# Altium footprint library Ublox.PcbLib: 1 footprints
Each footprint in its own frame and in the unit in brackets; x right, y up, seen from the top. Pads: shape width x height; smd on the part's side, far side on the other; paste and mask are expansions set on the pad; w line width, h text height; cw(c..) or ccw(c..) is an arc to the next point about the centre after c.
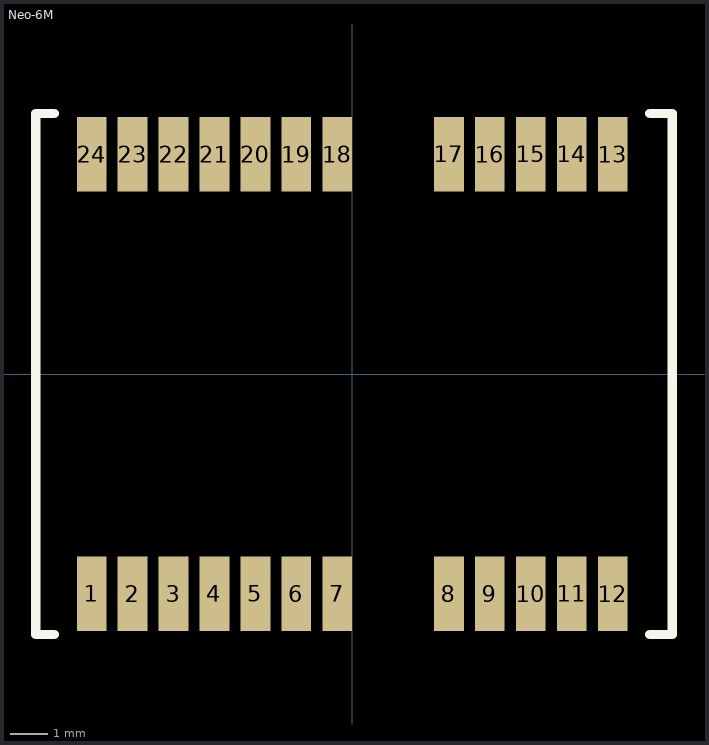
[diagram p0: the footprint, top view; thin cyan lines are the x and y axes]

## Neo-6M [mm]
pads (24):
  rect 0.8x2 smd: 1(-7,-5.9) 2(-5.9,-5.9) 3(-4.8,-5.9) 4(-3.7,-5.9) 5(-2.6,-5.9) 6(-1.5,-5.9) 7(-0.4,-5.9) 8(2.6,-5.9) 9(3.7,-5.9) 10(4.8,-5.9) 11(5.9,-5.9) 12(7,-5.9) 13(7,5.9) 14(5.9,5.9) 15(4.8,5.9) 16(3.7,5.9) 17(2.6,5.9) 18(-0.4,5.9) 19(-1.5,5.9) 20(-2.6,5.9) 21(-3.7,5.9) 22(-4.8,5.9) 23(-5.9,5.9) 24(-7,5.9)
Top Overlay:
  lines w0.254: -8,-7 -8.5,-7 -8.5,6.6 -8.5,7 -8,7 ; 8,-7 8.6,-7 8.6,7 8,7
3D body "User Library-UBLOX_GPS_NEO-6M.STEP": height 2.64, standoff 0, extent -8.3,-6.18 8.3,6.18